# EAGLE library part SCREEN (library OneHandedPiano)
SPI Screen, Adafruit Product ID: 1770
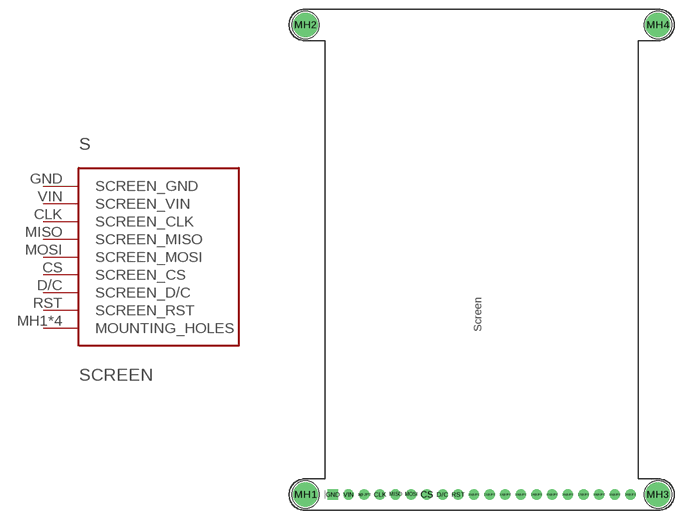
[diagram p0: symbol with the pads of SCREEN; footprint SCREEN]

Designator prefix S

## SCREEN  [SCREEN]
CLK  SCREEN_CLK
CS  SCREEN_CS
D/C  SCREEN_D/C
GND  SCREEN_GND
MH1  MOUNTING_HOLES
MH2  MOUNTING_HOLES
MH3  MOUNTING_HOLES
MH4  MOUNTING_HOLES
MISO  SCREEN_MISO
MOSI  SCREEN_MOSI
RST  SCREEN_RST
VIN  SCREEN_VIN

## Footprint SCREEN (pad centres in mm)
Package generated by make-group2pac.ulp from: /Users/Shannon/Downloads/Adafruit-2.8-TFT-with-Capacitive-Touch-PCB-master/Adafruit 2.8 inch TFT w Capacitive Touch.brd at: 12/5/23 9:01 PM
drill 1 pad 1.676: 3@JP2 -19.05,-38.1; 10@JP2 -1.27,-38.1; 11@JP2 1.27,-38.1; 12@JP2 3.81,-38.1; 13@JP2 6.35,-38.1; 14@JP2 8.89,-38.1; 15@JP2 11.43,-38.1; 16@JP2 13.97,-38.1; 17@JP2 16.51,-38.1; 18@JP2 19.05,-38.1; 19@JP2 21.59,-38.1; 20@JP2 24.13,-38.1; CLK -16.51,-38.1; CS -8.89,-38.1; D/C -6.35,-38.1; MISO -13.97,-38.1; MOSI -11.43,-38.1; RST -3.81,-38.1; VIN -21.59,-38.1
drill 1 pad 1.676 square: GND -24.13,-38.1
drill 3 pad 3.6: MH1 -28.575,-38.1; MH2 -28.575,38.1; MH3 28.575,-38.1; MH4 28.575,38.1